# Altium footprint library TPS22953DQCR.PcbLib: 1 footprints
Each footprint in its own frame and in the unit in brackets; x right, y up, seen from the top. Pads: shape width x height; smd on the part's side, far side on the other; paste and mask are expansions set on the pad; w line width, h text height; cw(c..) or ccw(c..) is an arc to the next point about the centre after c.
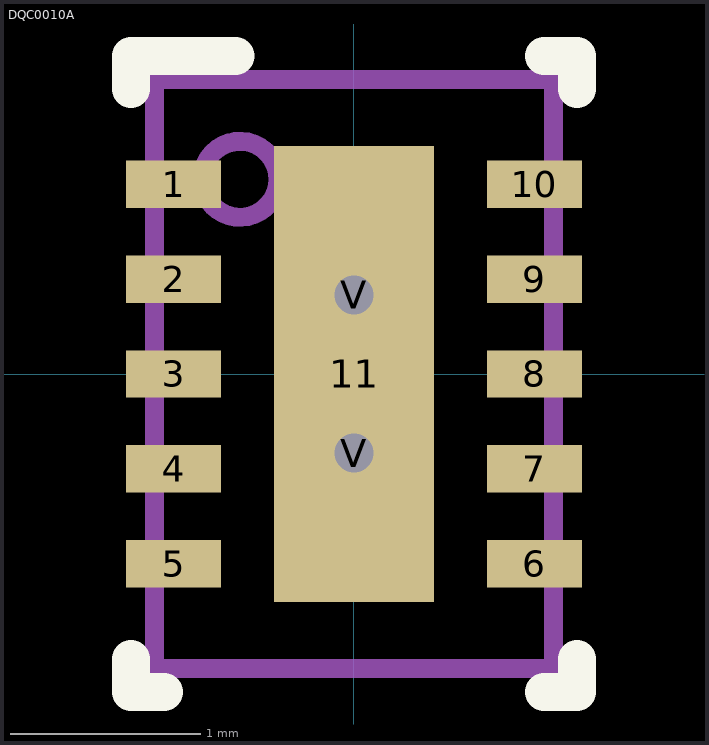
[diagram p0: the footprint, top view; thin cyan lines are the x and y axes]

## DQC0010A [mm]
pads (13):
  rect 0.5x0.25 smd paste+0 mask+0.051: 1(-0.95,1) 2(-0.95,0.5) 3(-0.95,0) 4(-0.95,-0.5) 5(-0.95,-1) 6(0.95,-1) 7(0.95,-0.5) 8(0.95,0) 9(0.95,0.5) 10(0.95,1)
  rect 0.84x2.4 smd paste-0.42 mask+0.051: 11(0,0)
  round 0.5 hole 0.203 paste-0.25 mask+0.051: V(0,-0.416) V(0,0.416)
Top Overlay:
  lines w0.2: -1.175,-1.5 -1.175,-1.675 -1,-1.675 ; -1.175,1.5 -1.175,1.675 -0.625,1.675 ; 1,-1.675 1.175,-1.675 1.175,-1.5 ; 1,1.675 1.175,1.675 1.175,1.5
  text ".Designator" at -3.492,-0.635 h1.27
Top Paste:
  region: -0.378,-0.516 -0.378,-1.148 0.378,-1.148 0.378,-0.516
  region: -0.378,1.148 -0.378,0.516 0.378,0.516 0.378,1.148
  region: -0.378,0.316 -0.378,-0.316 0.378,-0.316 0.378,0.316
Mechanical 13:
  circle w0.1: c-0.6,1.025 r0.2
  lines w0.1: -1.05,-1.55 -1.05,1.55 1.05,1.55 1.05,-1.55 -1.05,-1.55
  text ".Designator" at -3.492,-0.635 h1.27